# Altium footprint library 10k SMD Direnç.PcbLib: 1 footprints
Each footprint in its own frame and in the unit in brackets; x right, y up, seen from the top. Pads: shape width x height; smd on the part's side, far side on the other; paste and mask are expansions set on the pad; w line width, h text height; cw(c..) or ccw(c..) is an arc to the next point about the centre after c.
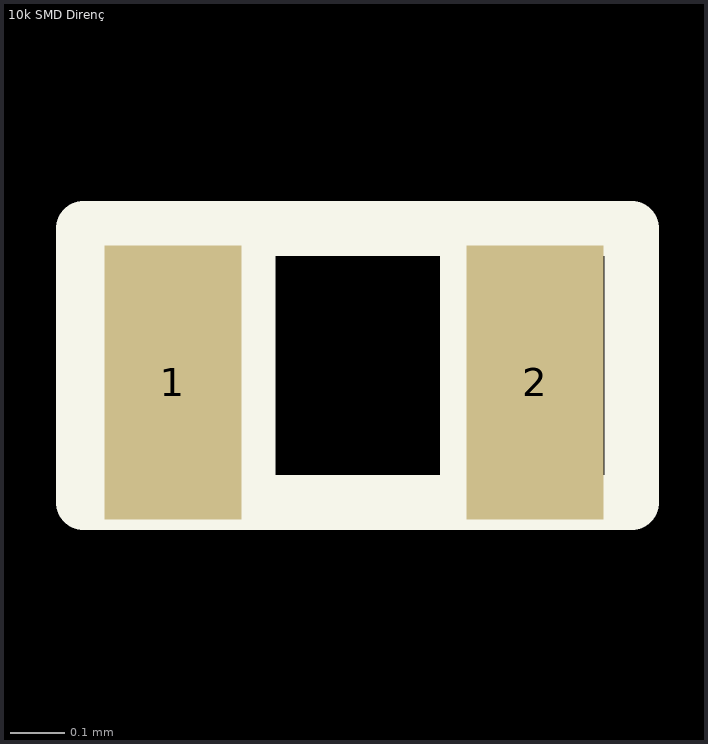
[diagram p0: the footprint, top view; thin cyan lines are the x and y axes]

## 10k SMD Direnç [mm]
pads (2):
  rect 0.25x0.5 smd mask+0.01: 1(-2.337,1.219) 2(-1.676,1.219)
Top Overlay:
  lines w0.1: -2.2,1 -2.2,1.5 ; -1.8,1 -1.8,1.5 ; -2.5,1 -1.5,1 -1.5,1.5 -2.5,1.5 -2.5,1